# Altium footprint library CON2X18_TH_2MM.PcbLib: 1 footprints
Each footprint in its own frame and in the unit in brackets; x right, y up, seen from the top. Pads: shape width x height; smd on the part's side, far side on the other; paste and mask are expansions set on the pad; w line width, h text height; cw(c..) or ccw(c..) is an arc to the next point about the centre after c.
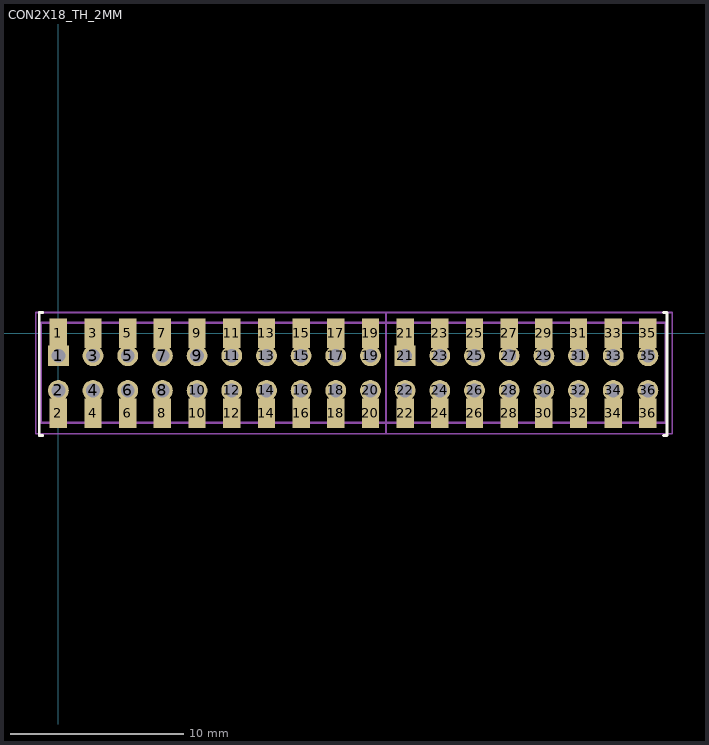
[diagram p0: the footprint, top view; thin cyan lines are the x and y axes]

## CON2X18_TH_2MM [mm]
height 4
pads (72):
  rect 1.2x1.2 hole 0.8: 1(0,-1.3) 21(20,-1.3)
  rect 1x1.7 smd: 1(0,0) 2(0,-4.6) 3(2,0) 4(2,-4.6) 5(4,0) 6(4,-4.6) 7(6,0) 8(6,-4.6) 9(8,0) 10(8,-4.6) 11(10,0) 12(10,-4.6) 13(12,0) 14(12,-4.6) 15(14,0) 16(14,-4.6) 17(16,0) 18(16,-4.6) 19(18,0) 20(18,-4.6) 21(20,0) 22(20,-4.6) 23(22,0) 24(22,-4.6) 25(24,0) 26(24,-4.6) 27(26,0) 28(26,-4.6) 29(28,0) 30(28,-4.6) 31(30,0) 32(30,-4.6) 33(32,0) 34(32,-4.6) 35(34,0) 36(34,-4.6)
  round 1.2 hole 0.8: 2(0,-3.3) 3(2,-1.3) 4(2,-3.3) 5(4,-1.3) 6(4,-3.3) 7(6,-1.3) 8(6,-3.3) 9(8,-1.3) 10(8,-3.3) 11(10,-1.3) 12(10,-3.3) 13(12,-1.3) 14(12,-3.3) 15(14,-1.3) 16(14,-3.3) 17(16,-1.3) 18(16,-3.3) 19(18,-1.3) 20(18,-3.3) 22(20,-3.3) 23(22,-1.3) 24(22,-3.3) 25(24,-1.3) 26(24,-3.3) 27(26,-1.3) 28(26,-3.3) 29(28,-1.3) 30(28,-3.3) 31(30,-1.3) 32(30,-3.3) 33(32,-1.3) 34(32,-3.3) 35(34,-1.3) 36(34,-3.3)
Top Overlay:
  lines w0.152: -0.9,-5.9 -1.1,-5.9 -1.1,0.7 ; -0.9,1.2 -1.1,1.2 -1.1,0.7 ; 34.9,-5.9 35.1,-5.9 35.1,0.7 35.1,1.2 34.9,1.2 ; -1.1,0.7 -1.1,0.7
Mechanical 13:
  lines w0.127: -1,-5.165 35.011,-5.165 35.011,0.6 -1,0.6 -1,-5.165
Mechanical 15:
  lines w0.1: 19,-5.8 -1.3,-5.8 -1.3,1.2 19,1.2 ; 18.9,-5.8 35.4,-5.8 35.4,1.2 18.9,1.2 18.9,-5.8
3D body: height 2.37, standoff -0.03, extent 15.011,-5.165 35.011,0.635
3D body: height 2.37, standoff -0.03, extent -1,-5.2 19,0.6